# Altium footprint library SMD Capasitor.PcbLib: 23 footprints (part 1 of 2)
Each footprint in its own frame and in the unit in brackets; x right, y up, seen from the top. Pads: shape width x height; smd on the part's side, far side on the other; paste and mask are expansions set on the pad; w line width, h text height; cw(c..) or ccw(c..) is an arc to the next point about the centre after c.
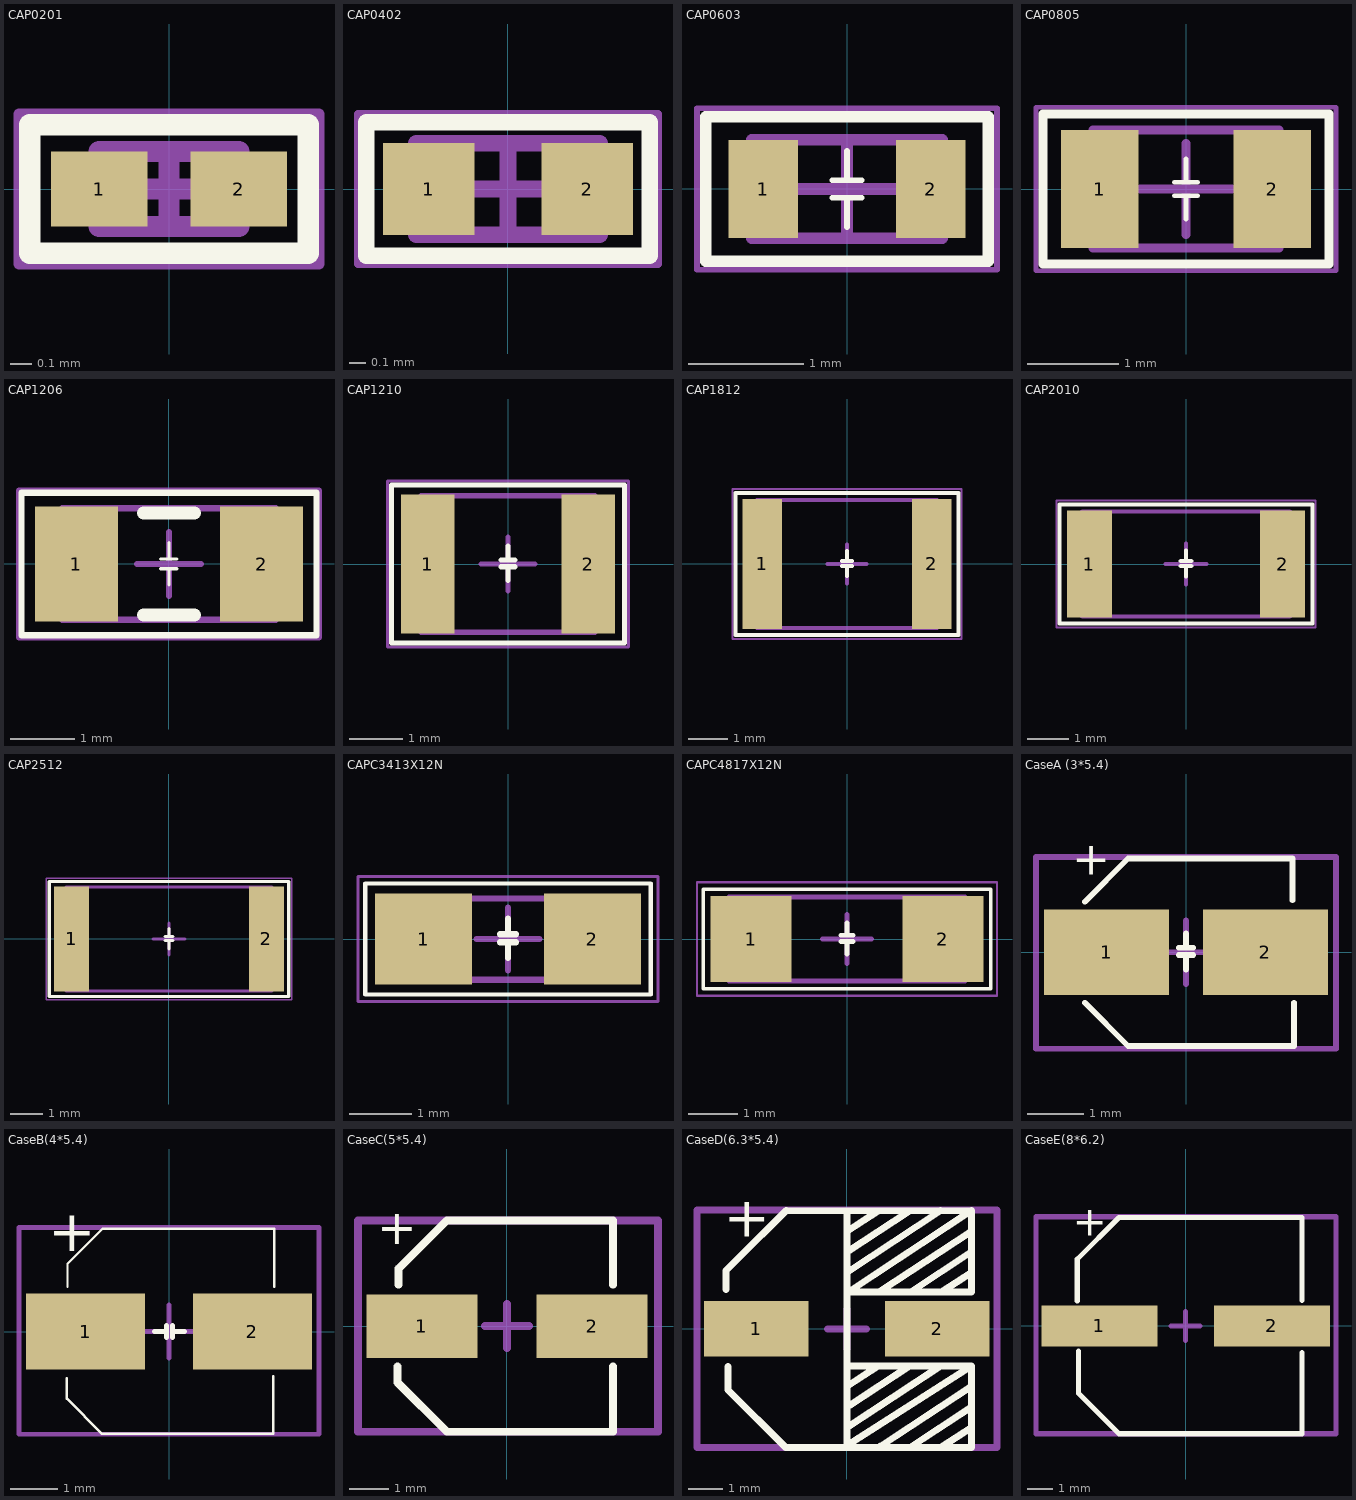
[diagram p0: the footprints below, top view; thin cyan lines are the x and y axes]

## CAP0201 [mm] "Chip Capacitor, 2-Leads, Body 0/60x0/30mm, IPC Medium Density DESIGNER:ABBAS BASEREH"
height 0.23
pads (2):
  rect 0.45x0.35 smd mask+0.04: 1(-0.325,0) 2(0.325,0)
Top Overlay:
  lines w0.1: -0.65,-0.3 0.325,-0.3 0.65,-0.3 0.65,0.3 0.325,0.3 -0.65,0.3 -0.65,-0.3
Mechanical 13:
  lines w0.1: -0.325,-0.175 0.325,-0.175 0.325,0.175 -0.325,0.175 -0.325,-0.175
Mechanical 15:
  lines w0.05: -0.7,-0.35 0.7,-0.35 0.7,0.35 -0.7,0.35 -0.7,-0.35
  lines w0.1: -0.175,0 0.175,0 ; 0,-0.175 0,0.175
3D body "CAP0201.step": height 0.23, standoff 0, extent -0.325,-0.175 0.325,0.175

## CAP0402 [mm] "Chip Capacitor, 2-Leads, Body 1/00x0/50mm, IPC Medium Density DESIGNER:ABBAS BASEREH"
height 0.32
pads (2):
  rect 0.55x0.55 smd mask+0.06: 1(-0.475,0) 2(0.475,0)
Top Overlay:
  lines w0.1: -0.85,-0.4 -0.85,0.4 0.425,0.4 0.85,0.4 0.85,-0.4 0.425,-0.4 -0.85,-0.4
Mechanical 13:
  lines w0.1: -0.55,-0.275 -0.55,0.275 0.55,0.275 0.55,-0.275 -0.55,-0.275
Mechanical 15:
  lines w0.05: -0.9,-0.45 -0.9,0.45 0.9,0.45 0.9,-0.45 -0.9,-0.45
  lines w0.1: -0.275,0 0.275,0 ; 0,-0.275 0,0.275
3D body "CAP0402.step": height 0.32, standoff 0, extent -0.55,-0.275 0.55,0.275

## CAP0603 [mm] "Chip Capacitor, 2-Leads, Body 1/60x0/80mm, IPC Medium Density DESIGNER:ABBAS BASEREH"
height 0.4
pads (2):
  rect 0.6x0.85 smd: 1(-0.725,0) 2(0.725,0)
Top Overlay:
  lines w0.05: -0.127,-0.076 0.127,-0.076 ; -0.127,0.076 0.127,0.076 ; 0,-0.33 0,-0.076 ; 0,0.076 0,0.33
  lines w0.1: -1.225,-0.625 0.613,-0.625 1.225,-0.625 1.225,0.625 0.613,0.625 -1.225,0.625 -1.225,-0.625
Mechanical 13:
  lines w0.1: -0.825,-0.425 -0.825,0.425 0.825,0.425 0.825,-0.425 -0.825,-0.425
Mechanical 15:
  lines w0.05: -1.3,-0.7 -1.3,0.7 1.3,0.7 1.3,-0.7 -1.3,-0.7
  lines w0.1: -0.425,0 0.425,0 -0.425,0 ; 0,-0.425 0,0.425 0,-0.425
3D body "CAP0603.step": height 0.4, standoff 0, extent -0.825,-0.425 0.825,0.425

## CAP0805 [mm] "Chip Capacitor, 2-Leads, Body 2/00x1/25mm, IPC Medium Density DESIGNER:ABBAS BASEREH"
height 0.5
pads (2):
  rect 0.85x1.3 smd: 1(-0.95,0) 2(0.95,0)
Top Overlay:
  lines w0.05: -0.127,-0.076 0.127,-0.076 ; -0.127,0.076 0.127,0.076 ; 0,-0.33 0,-0.076 ; 0,0.076 0,0.33
  lines w0.1: -1.575,-0.825 0.788,-0.825 1.575,-0.825 1.575,0.825 0.788,0.825 -1.575,0.825 -1.575,-0.825
Mechanical 13:
  lines w0.1: -1.025,-0.65 1.025,-0.65 1.025,0.65 -1.025,0.65 -1.025,-0.65
Mechanical 15:
  lines w0.05: -1.65,-0.9 1.65,-0.9 1.65,0.9 -1.65,0.9 -1.65,-0.9
  lines w0.1: -0.5,0 0.5,0 ; 0,-0.5 0,0.5
3D body "CAP0805.step": height 0.5, standoff 0, extent -1.025,-0.65 1.025,0.65

## CAP1206 [mm] "Chip Capacitor, 2-Leads, Body 3/20x1/60mm, IPC Medium Density DESIGNER:ABBAS BASEREH"
height 0.94
pads (2):
  rect 1.3x1.8 smd: 1(-1.449,-0.001) 2(1.451,-0.001)
Top Overlay:
  lines w0.05: -0.127,-0.075 0.127,-0.075 ; -0.127,0.078 0.127,0.078 ; 0,-0.329 0,-0.075 ; 0,0.078 0,0.332
  lines w0.1: -2.31,-1.118 2.313,-1.118 2.313,1.117 -2.31,1.117 -2.31,-1.118
  lines w0.2: -0.399,-0.801 0.401,-0.801 ; -0.399,0.799 0.401,0.799
Mechanical 13:
  lines w0.1: -1.674,-0.876 -1.674,0.874 1.676,0.874 1.676,-0.876 -1.674,-0.876
Mechanical 15:
  lines w0.1: -0.499,-0.001 0.501,-0.001 ; 0.001,-0.501 0.001,0.499 ; -2.349,-1.151 -2.349,1.149 2.351,1.149 2.351,-1.151 -2.349,-1.151
3D body "CAP1206.step": height 0.94, standoff 0, extent -1.65,-0.85 1.65,0.85

## CAP1210 [mm] "Chip Capacitor, 2-Leads, Body 3/20x2/50mm, IPC Medium Density DESIGNER:ABBAS BASEREH"
height 0.55
pads (2):
  rect 1x2.6 smd: 1(-1.5,0) 2(1.5,0)
Top Overlay:
  lines w0.1: -0.127,-0.051 0.127,-0.051 ; -0.127,0.076 0.127,0.076 ; 0,-0.305 0,-0.051 ; 0,0.076 0,0.33 ; -2.175,-1.475 -2.175,1.475 1.087,1.475 2.175,1.475 2.175,-1.475 1.087,-1.475 -2.175,-1.475
Mechanical 13:
  lines w0.1: -1.625,-1.275 -1.625,1.275 1.625,1.275 1.625,-1.275 -1.625,-1.275
Mechanical 15:
  lines w0.05: -2.25,-1.55 -2.25,1.55 2.25,1.55 2.25,-1.55 -2.25,-1.55
  lines w0.1: -0.5,0 0.5,0 ; 0,-0.5 0,0.5
3D body "CAP1210.step": height 0.55, standoff 0, extent -1.625,-1.275 1.625,1.275

## CAP1812 [mm] "Chip Capacitor, 2-Leads, Body 4/50x3/20mm, IPC Medium Density DESIGNER:ABBAS BASEREH"
height 0.55
pads (2):
  rect 1x3.3 smd: 1(-2.15,0) 2(2.15,0)
Top Overlay:
  lines w0.1: -0.127,-0.051 0.127,-0.051 ; -0.127,0.076 0.127,0.076 ; 0,-0.305 0,-0.051 ; 0,0.076 0,0.33 ; -2.825,-1.8 1.413,-1.8 2.825,-1.8 2.825,1.8 1.413,1.8 -2.825,1.8 -2.825,-1.8
Mechanical 13:
  lines w0.1: -2.275,-1.625 2.275,-1.625 2.275,1.625 -2.275,1.625 -2.275,-1.625
Mechanical 15:
  lines w0.05: -2.9,-1.9 2.9,-1.9 2.9,1.9 -2.9,1.9 -2.9,-1.9
  lines w0.1: -0.5,0 0.5,0 ; 0,-0.5 0,0.5
3D body "CAP1812.step": height 0.55, standoff 0, extent -2.275,-1.625 2.275,1.625

## CAP2010 [mm] "Chip Capacitor, 2-Leads, Body 5/00x2/50mm, IPC Medium Density DESIGNER:ABBAS BASEREH"
height 0.55
pads (2):
  rect 1.1x2.6 smd: 1(-2.35,0) 2(2.35,0)
Top Overlay:
  lines w0.1: -0.127,-0.051 0.127,-0.051 ; -0.127,0.076 0.127,0.076 ; 0,-0.305 0,-0.051 ; 0,0.076 0,0.33 ; -3.075,-1.45 -3.075,1.45 1.538,1.45 3.075,1.45 3.075,-1.45 1.538,-1.45 -3.075,-1.45
Mechanical 13:
  lines w0.1: -2.525,-1.275 -2.525,1.275 2.525,1.275 2.525,-1.275 -2.525,-1.275
Mechanical 15:
  lines w0.05: -3.15,-1.55 -3.15,1.55 3.15,1.55 3.15,-1.55 -3.15,-1.55
  lines w0.1: -0.5,0 0.5,0 ; 0,-0.5 0,0.5
3D body "CAP2010.step": height 0.55, standoff 0, extent -2.525,-1.275 2.525,1.275

## CAP2512 [mm] "Chip Capacitor, 2-Leads, Body 6/40x3/20mm, IPC Medium Density DESIGNER:ABBAS BASEREH"
height 0.7
pads (2):
  rect 1.1x3.3 smd: 1(-3.05,0) 2(3.05,0)
Top Overlay:
  lines w0.1: -0.127,-0.051 0.127,-0.051 ; -0.127,0.076 0.127,0.076 ; 0,-0.305 0,-0.051 ; 0,0.076 0,0.33 ; -3.75,-1.8 -3.75,1.8 1.875,1.8 3.75,1.8 3.75,-1.8 1.875,-1.8 -3.75,-1.8
Mechanical 13:
  lines w0.1: -3.225,-1.625 -3.225,1.625 3.225,1.625 3.225,-1.625 -3.225,-1.625
Mechanical 15:
  lines w0.05: -3.85,-1.9 -3.85,1.9 3.85,1.9 3.85,-1.9 -3.85,-1.9
  lines w0.1: -0.5,0 0.5,0 ; 0,-0.5 0,0.5
3D body "CAP2512.step": height 0.7, standoff 0, extent -3.225,-1.625 3.225,1.625

## CAPC3413X12N [mm] "Chip Capacitor, 2-Leads, Body 3/40x1/30mm, IPC Medium Density-Design:Abbas Basereh"
height 1.2
pads (2):
  rect 1.55x1.45 smd: 1(-1.35,0) 2(1.35,0)
Top Overlay:
  lines w0.07: -2.286,-0.889 1.143,-0.889 2.286,-0.889 2.286,0.889 1.143,0.889 -2.286,0.889 -2.286,-0.889
  lines w0.1: -0.127,-0.051 0.127,-0.051 ; -0.127,0.076 0.127,0.076 ; 0,-0.305 0,-0.051 ; 0,0.076 0,0.33
Mechanical 13:
  lines w0.1: -1.7,-0.65 1.7,-0.65 1.7,0.65 -1.7,0.65 -1.7,-0.65
Mechanical 15:
  lines w0.05: -2.4,-1 2.4,-1 2.4,1 -2.4,1 -2.4,-1
  lines w0.1: -0.5,0 0.5,0 ; 0,-0.5 0,0.5
3D body "SW3dPS-0805 SMD Capacitor.STEP": height 0.78, standoff 0, extent -1,-0.625 1,0.625

## CAPC4817X12N [mm] "Chip Capacitor, 2-Leads, Body 4/80x1/70mm, IPC Medium Density-Design:Abbas Basereh"
height 1.2
pads (2):
  rect 1.65x1.75 smd: 1(-1.95,0) 2(1.95,0)
Top Overlay:
  lines w0.07: -2.921,-1.016 1.46,-1.016 2.921,-1.016 2.921,1.016 1.46,1.016 -2.921,1.016 -2.921,-1.016
  lines w0.1: -0.127,-0.051 0.127,-0.051 ; -0.127,0.076 0.127,0.076 ; 0,-0.305 0,-0.051 ; 0,0.076 0,0.33
Mechanical 13:
  lines w0.1: -2.4,-0.85 2.4,-0.85 2.4,0.85 -2.4,0.85 -2.4,-0.85
Mechanical 15:
  lines w0.05: -3.05,-1.15 3.05,-1.15 3.05,1.15 -3.05,1.15 -3.05,-1.15
  lines w0.1: -0.5,0 0.5,0 ; 0,-0.5 0,0.5
3D body "SW3dPS-1206 SMD Capacitor.STEP": height 1, standoff 0, extent -1.6,-0.8 1.6,0.8

## CaseA (3*5.4) [mm] "Electrolytic Capacitor SMD Case"
pads (2):
  rect 2.2x1.5 smd: 1(-1.4,0) 2(1.4,0)
Top Overlay:
  lines w0.1: -1.781,-0.889 -1.019,-1.651 1.826,-1.651 1.902,-1.651 1.902,-1.575 1.902,-0.889 ; -1.781,0.889 -1.019,1.651 1.877,1.651 1.877,0.914 ; -0.127,-0.051 0.127,-0.051 ; -0.127,0.076 0.127,0.076 ; 0,-0.305 0,-0.051 ; 0,0.076 0,0.33
  text "+" at -2.007,1.166 h1
Mechanical 15:
  lines w0.1: -0.559,0 0.559,0 ; 0,-0.559 0,0.559 ; -2.642,-1.702 2.642,-1.702 2.642,1.676 1.778,1.676 -2.642,1.676 -2.642,-1.702
3D body "User Library-ALU-A.STEP": height 5.4, standoff 0, extent -1.778,-1.65 1.822,1.65

## CaseB(4*5.4) [mm] "Electrolytic Capacitor SMD Case"
pads (2):
  rect 2.5x1.6 smd: 1(-1.75,0) 2(1.75,0)
Top Overlay:
  lines w0.051: -2.144,-0.978 -2.144,-1.41 -1.403,-2.15 2.187,-2.15 2.187,-0.94 ; -2.131,0.94 -2.131,1.422 -1.394,2.159 -1.369,2.159 2.212,2.159 2.212,0.94
  lines w0.1: -0.305,0 -0.051,0 ; -0.051,-0.127 -0.051,0.127 ; 0.076,-0.127 0.076,0.127 ; 0.076,0 0.33,0
  text "+" at -2.537,1.394 h1.5
Mechanical 15:
  lines w0.1: -0.559,0 0.559,0 ; 0,-0.559 0,0.559 ; -3.15,-2.159 3.15,-2.159 3.15,2.184 2.286,2.184 -3.15,2.184 -3.15,-2.159
3D body "User Library-ALU-B.STEP": height 5.4, standoff 0, extent -2.272,-2.15 2.328,2.15

## CaseC(5*5.4) [mm] "Electrolytic Capacitor SMD Case"
pads (2):
  rect 2.8x1.6 smd: 1(-2.15,0) 2(2.15,0)
Top Overlay:
  lines w0.2: -2.76,-1.016 -2.76,-1.422 -1.515,-2.667 2.676,-2.667 2.676,-1.016 ; -2.734,1.041 -2.734,1.448 -1.515,2.667 2.676,2.667 2.676,1.041
  text "+" at -3.277,1.775 h1.5
Mechanical 15:
  lines w0.2: -0.559,0 0.559,0 ; 0,-0.559 0,0.559 ; -3.759,-2.667 -3.759,2.667 3.81,2.667 3.81,-2.667 -3.759,-2.667
3D body "User Library-ALU-C.STEP": height 5.41, standoff 0, extent -2.941,-2.65 2.959,2.65

## CaseD(6.3*5.4) [mm] "Electrolytic Capacitor SMD Case"
pads (2):
  rect 3x1.6 smd: 1(-2.6,0) 2(2.6,0)
Top Overlay:
  lines w0.2: -3.464,1.125 -3.464,1.676 -3.184,1.956 -1.74,3.4 0,3.378 ; -3.413,-1.075 -3.413,-1.753 -1.765,-3.4 3.579,-3.4 3.579,-1.064 ; 0.001,-2.834 2.666,-1.078 ; 0.003,-1.064 3.579,-1.064 ; 0.009,2.209 1.793,3.384 ; 0.034,1.638 2.693,3.39 ; 0.037,-1.635 0.872,-1.085 ; 0.037,2.815 0.872,3.365 ; 0.074,-2.199 1.776,-1.077 ; 0.971,-3.37 3.554,-1.668 ; 0.971,1.08 3.554,2.782 ; 1.838,-3.386 3.579,-2.239 ; 1.838,1.064 3.579,2.211 ; 2.737,-3.381 3.572,-2.831 ; 2.737,1.069 3.572,1.619 ; 0,3.378 3.579,3.4 ; 0,3.378 0,0 0,-3.353 3.579,-1.064 ; 3.579,3.4 3.579,1.05 0.034,1.05 3.579,3.4
  text "+" at -3.53,2.254 h2
Mechanical 15:
  lines w0.2: -0.559,0 0.559,0 ; 0,-0.559 0,0.559 ; -4.302,-3.404 4.309,-3.404 4.309,3.404 3.547,3.404 -4.302,3.404 -4.302,-3.404
3D body "User Library-ALU-D.STEP": height 5.4, standoff 0, extent -3.509,-3.3 3.491,3.3

## CaseE(8*6.2) [mm] "Electrolytic Capacitor SMD Case"
pads (2):
  rect 4.5x1.6 smd: 1(-3.35,0) 2(3.35,0)
Top Overlay:
  lines w0.2: -4.214,0.965 -4.214,2.591 -2.588,4.216 4.524,4.216 4.524,0.991 ; -4.163,-0.978 -4.163,-2.616 -2.588,-4.191 4.524,-4.191 4.524,-1.041
  text "+" at -4.391,3.12 h2
Mechanical 15:
  lines w0.2: -0.559,0 0.559,0 ; 0,-0.559 0,0.559 ; -5.817,-4.191 -5.817,4.242 2.048,4.242 5.842,4.242 5.842,-4.191 -5.817,-4.191
3D body "User Library-ALU-E.STEP": height 6.2, standoff 0, extent -4.37,-4.15 4.63,4.15